# EAGLE library part MINI (library USB - Verbinder)
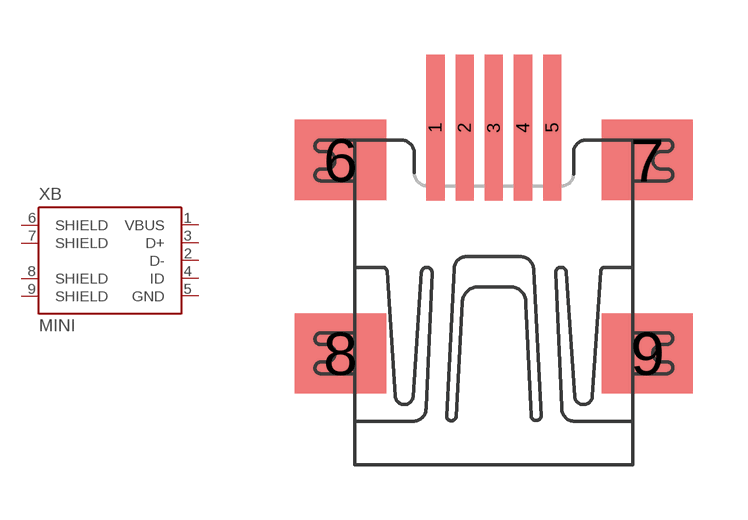
[diagram p0: symbol with the pads of MINI; footprint MINI]

Designator prefix XB

## MINISMD  [MINI]
1  VBUS
2  D-
3  D+
4  ID
5  GND
6  SHIELD
7  SHIELD
8  SHIELD
9  SHIELD

## Footprint MINI (pad centres in mm)
smd 0.5 x 4: 1 -1.6,4.155; 2 -0.8,4.155; 3 0,4.155; 4 0.8,4.155; 5 1.6,4.155
smd 2.5 x 2.2: 6 -4.2,3.27; 7 4.2,3.27; 8 -4.2,-2.03; 9 4.2,-2.03